# EAGLE library part LTC2954 (library linear-technology)
PUSHBUTTON ON/OFF CONTROLLER
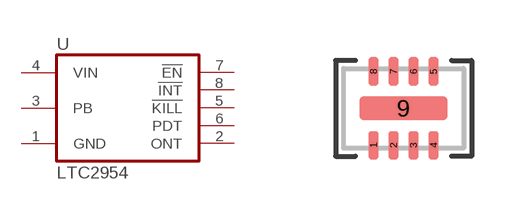
[diagram p51: symbol with the pads of DFN8-DDB; footprint DFN8-DDB]

Designator prefix U

## LTC2954DDB (P1I: o)  [DFN8-DDB]
1  GND  pwr
2  ONT  pas
3  PB  in
4  VIN  pwr
5  !KILL!  in
6  PDT  pas
7  !EN!  oc
8  !INT!  oc

## Footprint DFN8-DDB (pad centres in mm)
DFN8 - DDB Package 8-Lead Plastic DFN (3mm × 2mm)
smd 0.25 x 0.7: 1 -0.75,-0.925; 2 -0.25,-0.925; 3 0.25,-0.925; 4 0.75,-0.925; 5 0.75,0.925; 6 0.25,0.925; 7 -0.25,0.925; 8 -0.75,0.925
smd 2.2 x 0.61: 9 0,0